# EAGLE library part PENKO_CON6 (library A13-OLinuXino_WIFI_Rev_G)
CONNECTORS - 6 PINS
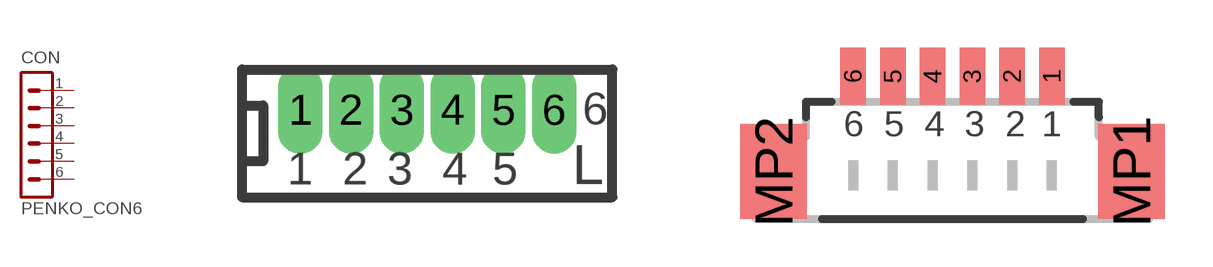
[diagram p14: symbol with the pads of PENKO_CON1.27MM-6-SMALL_ICSP; footprints PENKO_CON1.27MM-6-SMALL_ICSP, PENKO_WU06S-SMD-MIRROR]

Designator prefix CON

## PENKO_CON6  [PENKO_CON1.27MM-6-SMALL_ICSP]
1  1  pas
2  2  pas
3  3  pas
4  4  pas
5  5  pas
6  6  pas

## PENKO_CON6-WU06S-SMD  [PENKO_WU06S-SMD-MIRROR]
Pads as for PENKO_CON1.27MM-6-SMALL_ICSP

## PENKO_CON61.27MM-6-SMALL  [PENKO_CON1.27MM-6-SMALL_TRANSITIVE]
Pads as for PENKO_CON1.27MM-6-SMALL_ICSP

## PENKO_CON62.54-0-D  [PENKO_CON2.54MM-6-0D]
Pads as for PENKO_CON1.27MM-6-SMALL_ICSP

## PENKO_CON6HD-515R_6P  [PENKO_HD-515R_6P]
Pads as for PENKO_CON1.27MM-6-SMALL_ICSP

## PENKO_CON6HN1X6  [PENKO_HN1X6]
Pads as for PENKO_CON1.27MM-6-SMALL_ICSP

## PENKO_CON6HN1X6-2.0HN1X20-2.0  [PENKO_HN1X6-2.0]
Pads as for PENKO_CON1.27MM-6-SMALL_ICSP

## PENKO_CON6PN1X6  [PENKO_PN1X6]
Pads as for PENKO_CON1.27MM-6-SMALL_ICSP

## PENKO_CON6PR6-3.96MM  [PENKO_CON3.96MM-6-90]
Pads as for PENKO_CON1.27MM-6-SMALL_ICSP

## PENKO_CON6PV6-2.54MM  [PENKO_CON2.54MM-6-0]
Pads as for PENKO_CON1.27MM-6-SMALL_ICSP

## PENKO_CON6PV6-3.96MM  [PENKO_CON3.96MM-6-0]
Pads as for PENKO_CON1.27MM-6-SMALL_ICSP

## PENKO_CON6TDOCU  [PENKO_CON6_TDOCU]
Pads as for PENKO_CON1.27MM-6-SMALL_ICSP

## PENKO_CON6TELEFON  [PENKO_CON_TELEFON]
Pads as for PENKO_CON1.27MM-6-SMALL_ICSP

## PENKO_CON6WF6R  [PENKO_WF6R]
Pads as for PENKO_CON1.27MM-6-SMALL_ICSP

## PENKO_CON6WF6S  [PENKO_WF6S]
Pads as for PENKO_CON1.27MM-6-SMALL_ICSP

## PENKO_CON6WU06S-SMD  [PENKO_WU06S-SMD]
Pads as for PENKO_CON1.27MM-6-SMALL_ICSP

## PENKO_CON6WUO6S  [PENKO_WU06S]
Pads as for PENKO_CON1.27MM-6-SMALL_ICSP

## Footprint PENKO_CON1.27MM-6-SMALL_ICSP (pad centres in mm)
drill 0.6 pad 1.016 long: 1 -3.175,0; 2 -1.905,0; 3 -0.635,0; 4 0.635,0; 5 1.905,0; 6 3.175,0

## Footprint PENKO_WU06S-SMD-MIRROR (pad centres in mm)
CI44 Series 1.25mm(.049") Pin Header Manifacture: CviLux, CI44 Series, Part Number: CI4406M1V00-LF Supplier: Comet Electronics Part Number: WU06S-SMD This is Male connector! It reqire SU06 Female connector! Eletrical Characteristics: - 1A/125V Mechanical Characteristics: Pitch: 1.25mm Dimensions: (12.35 x 3.70 x 4.80)mm
smd 0.8 x 1.8: 1 3.125,0; 2 1.875,0; 3 0.625,0; 4 -0.625,0; 5 -1.875,0; 6 -3.125,0
smd 2.1 x 3: MP1 5.625,-3; MP2 -5.625,-3

## Footprint PENKO_CON1.27MM-6-SMALL_TRANSITIVE (pad centres in mm)
drill 0.6 pad 1.016 long: 1 3.175,0; 2 1.905,0; 3 0.635,0; 4 -0.635,0; 5 -1.905,0; 6 -3.175,0

## Footprint PENKO_CON2.54MM-6-0D (pad centres in mm)
drill 1.092 pad 1.778 square: 1 -6.35,0
drill 1.092 pad 1.778: 2 -3.81,0; 3 -1.27,0; 4 1.27,0; 5 3.81,0; 6 6.35,0

## Footprint PENKO_HD-515R_6P (pad centres in mm)
HD-515R Series Manufacture: How Der Supplier: Comet Electronics Part Number: HD-515R 6P This is Male connector! It reqires HD-515H 6P Female connector! Eletrical Characteristics: - 10A, 300V AC Mechanical Characteristics: Pitch: 5mm; Dimensions: 30.08 x 12.20 x 8.00 mm
drill 1.6 long: 1 -12.5,8; 2 -7.5,8; 3 -2.5,8; 4 2.5,8; 5 7.5,8; 6 12.5,8

## Footprint PENKO_HN1X6 (pad centres in mm)
CH31 Series Manufacture: CviLux Supplier: Comet Electronics Part Number: HN1x6 is part of HN1x40 This is Male connector! It reqires PNB1x6 Female connector Eletrical Characteristics: - 3A(per contact)/300 VAC Mechanical Characteristics: Pitch: 2.54mm(.100"); Dimensions: 15.06 x 2.54 x (6+2.54+3)=11.54 mm
drill 1 pad 1.676 square: 1 -6.35,0
drill 1 pad 1.676: 2 -3.81,0; 3 -1.27,0; 4 1.27,0; 5 3.81,0; 6 6.35,0

## Footprint PENKO_HN1X6-2.0 (pad centres in mm)
CH11 Series Manufacture: CviLux Supplier: Comet Electronics Part Number: HN1x6-2.0 is a part of HN1X20-2.0 This is Male connector! It reqires 2xPNB1X3-2.0 Female connectors or one PN1X10-2.0 Eletrical Characteristics: - ??????? Mechanical Characteristics: Pitch: 2.00mm(.079"); Dimensions: 12.00 x 2.00 x 8.70 mm High up to the board : 8.70 - 2.8 = 5.9 mm
drill 0.9 pad 1.651 square: 1 -5,0
drill 0.9 pad 1.651: 2 -3,0; 3 -1,0; 4 1,0; 5 3,0; 6 5,0

## Footprint PENKO_PN1X6 (pad centres in mm)
CB39 Series 2.54mm(.100") Single Row Female Headers Manufacture: CviLux Supplier: Comet Electronics Part Number: PN1x6 is part of PN1x8/10/16/20 and so on This is Female connector! It reqires HN1x6 Male connector Eletrical Characteristics: - ??????? Mechanical Characteristics: Pitch: 2.54mm(.100"); Dimensions: 15.06 x 2.54 x 9.00 mm
drill 1.1 pad 1.676 square: 1 -6.35,0
drill 1.1 pad 1.676: 2 -3.81,0; 3 -1.27,0; 4 1.27,0; 5 3.81,0; 6 6.35,0

## Footprint PENKO_CON3.96MM-6-90 (pad centres in mm)
3.96 mm PITCH CONNECTOR 3.96mm x 6 - 90 degree Drill 1.8 mm
drill 1.803 pad 2.921 square: 1 0,0
drill 1.803 pad 3.175: 2 3.962,0; 3 7.925,0; 4 11.887,0; 5 15.85,0; 6 19.812,0

## Footprint PENKO_CON2.54MM-6-0 (pad centres in mm)
2.54 mm PITCH CONNECTOR 2.54mm x 6 - 0 degree Drill 1.1 mm (Pad inch 0.085)
drill 1.092 pad 1.778 square: 1 -6.35,0
drill 1.092 pad 1.778: 2 -3.81,0; 3 -1.27,0; 4 1.27,0; 5 3.81,0; 6 6.35,0

## Footprint PENKO_CON3.96MM-6-0 (pad centres in mm)
3.96 mm PITCH CONNECTOR 3.96mm x 6 - 0 degree Drill 1.8 mm
drill 1.803 pad 2.921 square: 1 0,0
drill 1.803 pad 3.175: 2 3.962,0; 3 7.925,0; 4 11.887,0; 5 15.85,0; 6 19.812,0

## Footprint PENKO_CON6_TDOCU (pad centres in mm)
drill 1.092 pad 1.93 square: 1 -6.35,0
drill 1.092 pad 1.93: 2 -3.81,0; 3 -1.27,0; 4 1.27,0; 5 3.81,0; 6 6.35,0

## Footprint PENKO_CON_TELEFON (pad centres in mm)
drill 0.9 pad 1.499: 1 0,0; 2 1,2.54; 3 2,0; 4 3,2.54; 5 4,0; 6 5,2.54
hole 2.5 at -3.5,-2.13
hole 2.5 at 8.5,-2.13

## Footprint PENKO_WF6R (pad centres in mm)
CI31 Series 2.54mm(.100") DIP Headers Manifacture: CviLux, CI31 Series Supplier: Comet Electronics Part Number: WF6R This is Male connector! It reqire HU6 Female connector! Eletrical Characteristics: - 3A/250V Mechanical Characteristics: Pitch: 2.54mm Dimensions: 15.20 x 11.50 x 5.80 mm
drill 1.1 pad 1.778 square: 1 -6.35,0
drill 1.1 pad 1.778: 2 -3.81,0; 3 -1.27,0; 4 1.27,0; 5 3.81,0; 6 6.35,0

## Footprint PENKO_WF6S (pad centres in mm)
CI31 Series 2.54mm(.100") DIP Headers Manifacture: CviLux, CI31 Series Supplier: Comet Electronics Part Number: WF6S This is Male connector! It reqire HU6 Female connector! Eletrical Characteristics: - 3A/250V Mechanical Characteristics: Pitch: 2.54mm Dimensions: 15.20 x 5.80 x 11.50 mm
drill 1.1 pad 1.778 square: 1 -6.35,0
drill 1.1 pad 1.778: 2 -3.81,0; 3 -1.27,0; 4 1.27,0; 5 3.81,0; 6 6.35,0

## Footprint PENKO_WU06S-SMD (pad centres in mm)
CI44 Series 1.25mm(.049") Pin Header Manifacture: CviLux, CI44 Series, Part Number: CI4406M1V00-LF Supplier: Comet Electronics Part Number: WU06S-SMD This is Male connector! It reqire SU06 Female connector! Eletrical Characteristics: - 1A/125V Mechanical Characteristics: Pitch: 1.25mm Dimensions: (12.35 x 3.70 x 4.80)mm
smd 0.8 x 1.8: 1 -3.125,0; 2 -1.875,0; 3 -0.625,0; 4 0.625,0; 5 1.875,0; 6 3.125,0
smd 2.1 x 3: MP1 -5.625,-3; MP2 5.625,-3

## Footprint PENKO_WU06S (pad centres in mm)
CI44 Series 1.25mm(.049") Pin Header Manifacture: CviLux, CI44 Series Supplier: Comet Electronics Part Number: WU06S This is Male connector! It reqire SU06 Female connector! Eletrical Characteristics: - 1A/100V Mechanical Characteristics: Pitch: 1.25mm Dimensions: (9.30 x 3.20 x 4.70)mm
drill 0.6 pad 0.991 long: 1 -3.125,0; 2 -1.875,0; 3 -0.625,0; 4 0.625,0; 5 1.875,0; 6 3.125,0